# Altium integrated library ON Semi EMI Filters.IntLib: 88 symbols (part 1 of 3)
Pins are listed as number, name and electrical type; pins without a type are passive.

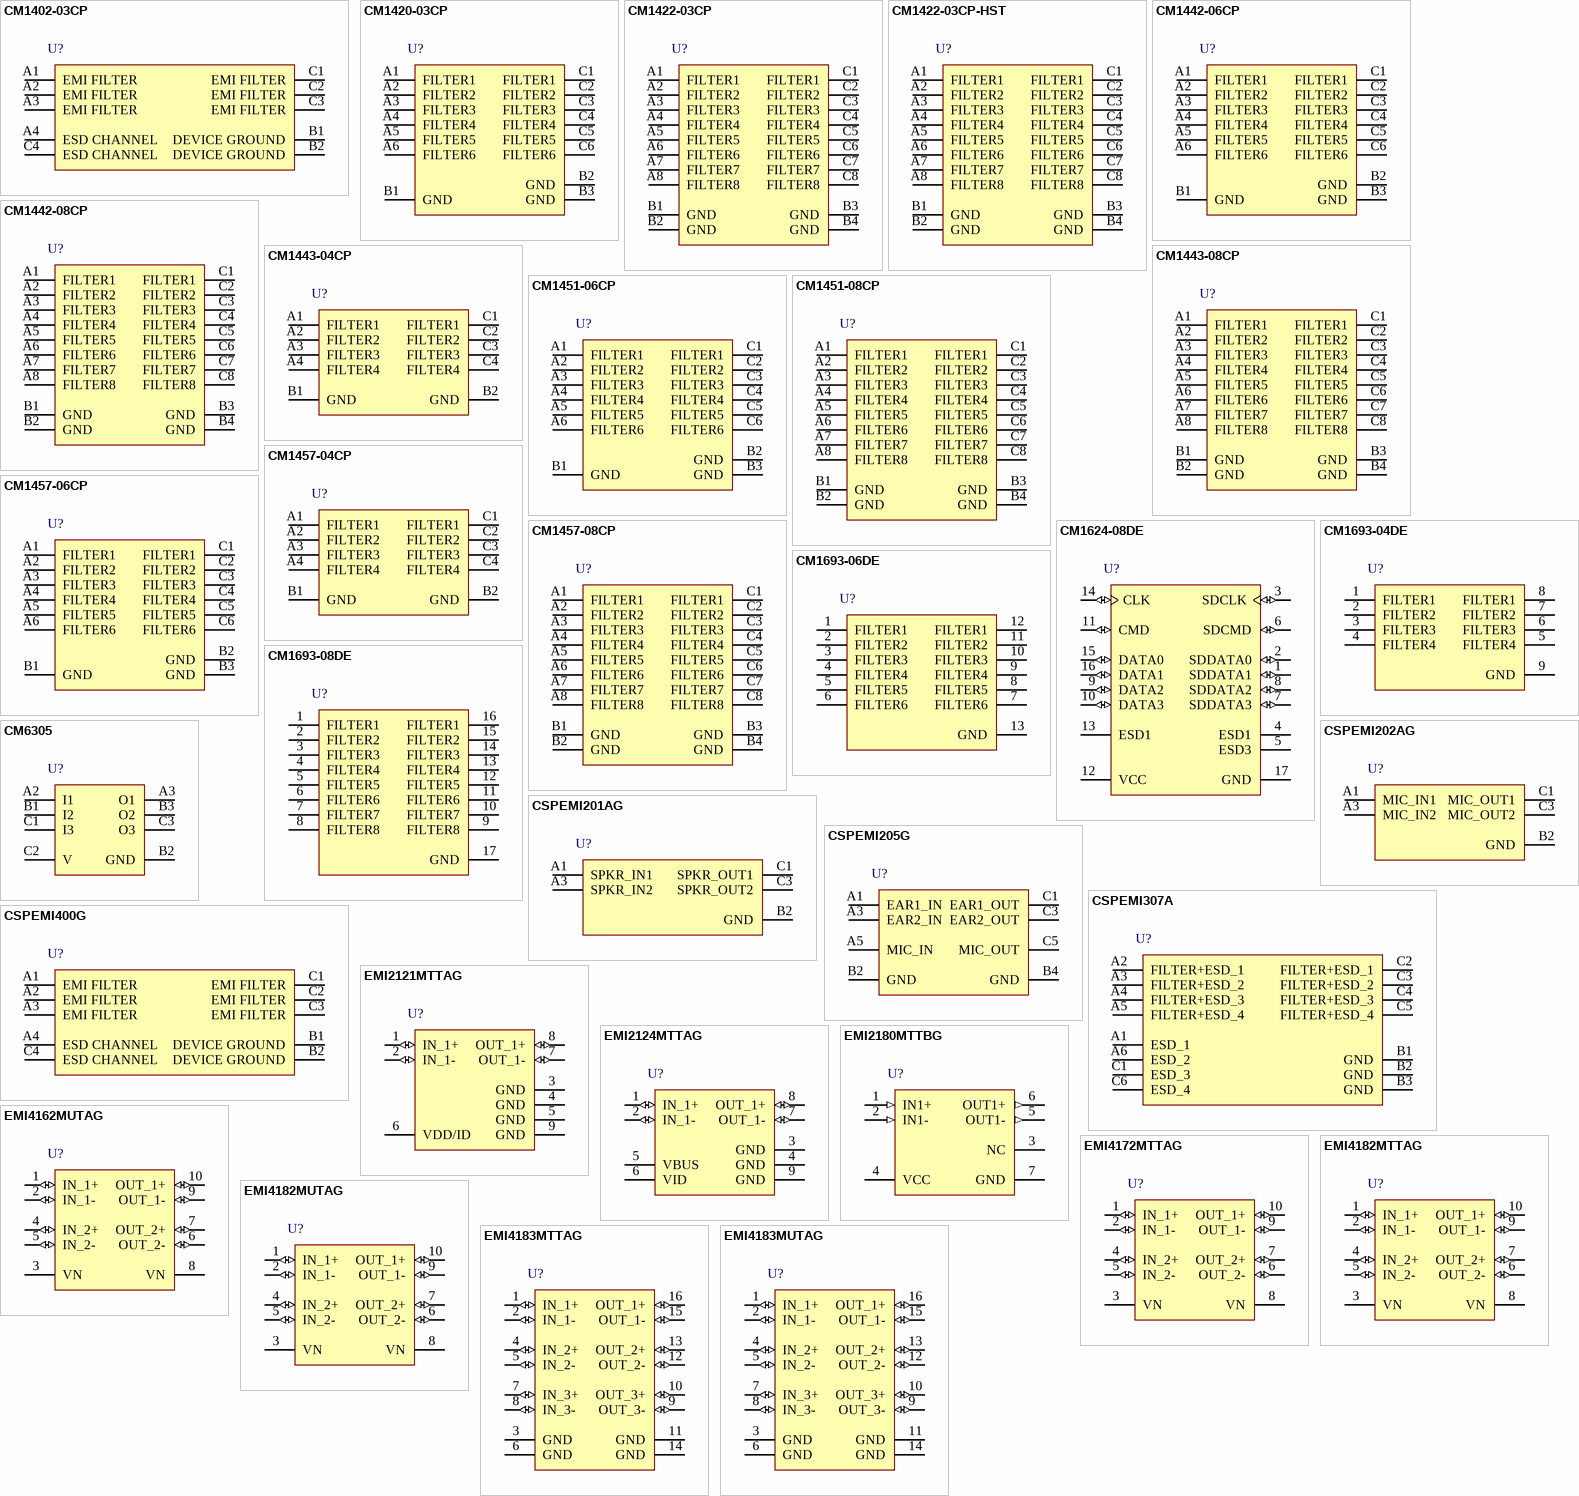
[diagram p0: symbols CM1402-03CP to EMI4183MUTAG]

## CM1402-03CP
designator U?
SIM Card EMI Filter Array with ESD Protection, -40 to 85 degC, 10-Pin WLCSP, Pb-Free, Tape and Reel; Manufacturer: On Semiconductor; PartNumber: CM1402-03CP; C Typ (pF): 20; Number of Lines: 4; DatasheetVersion: Rev. 4; PackageVersion: Rev. O, 07/2010; PackageReference: WLCSP-10-567BL-01; PackageDescription: 10-Ball Wafer Level Chip Scale Package, Body 1.96 x 1.33 mm; Supplier 1: Digi-Key; Supplier Part Number 1: CM1402-03CPOSTR-ND; Supplier 2: Digi-Key; Supplier Part Number 2: CM1402-03CPOSCT-ND; Supplier 3: Digi-Key; Supplier Part Number 3: CM1402-03CPOSDKR-ND; Supplier 4: Mouser; Supplier Part Number 4: 748-CM1402-03CP; Packing: Tape and Reel; RoHS: Pb-Free; Mounting Technology: Surface Mount; ComponentLink1Description: Manufacturer URL; ComponentLink1URL: http://www.onsemi.com/; ComponentLink2Description: Datasheet; ComponentLink2URL: http://www.onsemi.com/pub_link/Collateral/CM1402-D.PDF; ComponentLink3Description: Package Specification; ComponentLink3URL: http://www.onsemi.com/pub_link/Collateral/567BL.PDF
footprint ONSC-WLCSP-10-567BL-01 (BGA, 10-Balls, Body 1.96x1.33mm)
pins: A1 EMI FILTER "EMI Filter with ESD Protection for RST Signal", A2 EMI FILTER "EMI Filter with ESD Protection for CLK Signal", A3 EMI FILTER "EMI Filter with ESD Protection for DAT Signal", A4 ESD CHANNEL (power) "ESD Protection Channel - VCC Supply", B1 DEVICE GROUND (power) "Device Ground", B2 DEVICE GROUND (power) "Device Ground", C1 EMI FILTER "EMI Filter with ESD Protection for RST Signal", C2 EMI FILTER "EMI Filter with ESD Protection for CLK Signal", C3 EMI FILTER "EMI Filter with ESD Protection for DAT Signal", C4 ESD CHANNEL "ESD Protection Channel"

## CM1420-03CP
designator U?
LCD EMI Filter Array with ESD Protection, -40 to 85 degC, 15-Pin WLCSP, Pb-Free, Tape and Reel; Manufacturer: On Semiconductor; PartNumber: CM1420-03CP; C Typ (pF): 15; Number of Lines: 6; DatasheetVersion: Rev. 4; PackageVersion: Rev. O, 07/2010; PackageReference: WLCSP-15-567BS-01; PackageDescription: 15-Ball Wafer Level Chip Scale Package, Body 2.96 x 1.33 mm; Supplier 1: Digi-Key; Supplier Part Number 1: CM1420-03CP-ND; Packing: Tape and Reel; RoHS: Pb-Free; Mounting Technology: Surface Mount; ComponentLink1Description: Manufacturer URL; ComponentLink1URL: http://www.onsemi.com/; ComponentLink2Description: Datasheet; ComponentLink2URL: http://www.onsemi.com/pub/Collateral/CM1420-D.PDF; ComponentLink3Description: Package Specification; ComponentLink3URL: http://www.onsemi.com/pub_link/Collateral/567BS.PDF
footprint ONSC-WLCSP-15-567BS-01 (BGA, 15-Balls, Body 2.96x1.33mm)
pins: A1 FILTER1 "Filter Channel 1", A2 FILTER2 "Filter Channel 2", A3 FILTER3 "Filter Channel 3", A4 FILTER4 "Filter Channel 4", A5 FILTER5 "Filter Channel 5", A6 FILTER6 "Filter Channel 6", B1 GND (power) "Device Ground", B2 GND (power) "Device Ground", B3 GND (power) "Device Ground", C1 FILTER1 "Filter Channel 1", C2 FILTER2 "Filter Channel 2", C3 FILTER3 "Filter Channel 3", C4 FILTER4 "Filter Channel 4", C5 FILTER5 "Filter Channel 5", C6 FILTER6 "Filter Channel 6"

## CM1422-03CP
designator U?
LCD EMI Filter Array with ESD Protection, -40 to 85 degC, 20-Pin WLCSP, Pb-Free, Tape and Reel; Manufacturer: On Semiconductor; PartNumber: CM1422-03CP; C Typ (pF): 15; Number of Lines: 8; DatasheetVersion: Rev. 4; PackageVersion: Rev. O, 07/2010; PackageReference: WLCSP-20-567BZ-01; PackageDescription: 20-Ball Wafer Level Chip Scale Package, Body 4 x 1.46 mm; Supplier 1: Digi-Key; Supplier Part Number 1: CM1422-03CPOSTR-ND; Supplier 2: Digi-Key; Supplier Part Number 2: CM1422-03CPOSCT-ND; Supplier 3: Digi-Key; Supplier Part Number 3: CM1422-03CPOSDKR-ND; Supplier 4: Newark; Supplier Part Number 4: 99R2563; Supplier 5: Mouser; Supplier Part Number 5: 748-CM1422-03CP; Packing: Tape and Reel; RoHS: Pb-Free; Mounting Technology: Surface Mount; ComponentLink1Description: Manufacturer URL; ComponentLink1URL: http://www.onsemi.com/; ComponentLink2Description: Datasheet; ComponentLink2URL: http://www.onsemi.com/pub/Collateral/CM1420-D.PDF; ComponentLink3Description: Package Specification; ComponentLink3URL: http://www.onsemi.com/pub_link/Collateral/567BZ.PDF
footprint ONSC-WLCSP-20-567BZ-01 (BGA, 20-Balls, Body 4x1.46mm)
pins: A1 FILTER1 "Filter Channel 1", A2 FILTER2 "Filter Channel 2", A3 FILTER3 "Filter Channel 3", A4 FILTER4 "Filter Channel 4", A5 FILTER5 "Filter Channel 5", A6 FILTER6 "Filter Channel 6", A7 FILTER7 "Filter Channel 7", A8 FILTER8 "Filter Channel 8", B1 GND (power) "Device Ground", B2 GND (power) "Device Ground", B3 GND (power) "Device Ground", B4 GND (power) "Device Ground", C1 FILTER1 "Filter Channel 1", C2 FILTER2 "Filter Channel 2", C3 FILTER3 "Filter Channel 3", C4 FILTER4 "Filter Channel 4", C5 FILTER5 "Filter Channel 5", C6 FILTER6 "Filter Channel 6", C7 FILTER7 "Filter Channel 7", C8 FILTER8 "Filter Channel 8"

## CM1422-03CP-HST
designator U?
LCD EMI Filter Array with ESD Protection, -40 to 85 degC, 20-Pin WLCSP, Pb-Free, Tape and Reel; Manufacturer: On Semiconductor; PartNumber: CM1422-03CP-HST; C Typ (pF): 15; Number of Lines: 8; DatasheetVersion: Rev. 4; PackageVersion: Rev. O, 07/2010; PackageReference: WLCSP-20-567BZ-01; PackageDescription: 20-Ball Wafer Level Chip Scale Package, Body 4 x 1.46 mm; Supplier 1: Mouser; Supplier Part Number 1: 748-CM1422-03CP-HST; Packing: Tape and Reel; RoHS: Pb-Free; Mounting Technology: Surface Mount; ComponentLink1Description: Manufacturer URL; ComponentLink1URL: http://www.onsemi.com/; ComponentLink2Description: Datasheet; ComponentLink2URL: http://www.onsemi.com/pub/Collateral/CM1420-D.PDF; ComponentLink3Description: Package Specification; ComponentLink3URL: http://www.onsemi.com/pub_link/Collateral/567BZ.PDF
footprint ONSC-WLCSP-20-567BZ-01 (BGA, 20-Balls, Body 4x1.46mm)
pins: A1 FILTER1 "Filter Channel 1", A2 FILTER2 "Filter Channel 2", A3 FILTER3 "Filter Channel 3", A4 FILTER4 "Filter Channel 4", A5 FILTER5 "Filter Channel 5", A6 FILTER6 "Filter Channel 6", A7 FILTER7 "Filter Channel 7", A8 FILTER8 "Filter Channel 8", B1 GND (power) "Device Ground", B2 GND (power) "Device Ground", B3 GND (power) "Device Ground", B4 GND (power) "Device Ground", C1 FILTER1 "Filter Channel 1", C2 FILTER2 "Filter Channel 2", C3 FILTER3 "Filter Channel 3", C4 FILTER4 "Filter Channel 4", C5 FILTER5 "Filter Channel 5", C6 FILTER6 "Filter Channel 6", C7 FILTER7 "Filter Channel 7", C8 FILTER8 "Filter Channel 8"

## CM1442-06CP
designator U?
LCD and Camera EMI Filter Array with ESD Protection, -40 to 85 degC, 15-Pin WLCSP, Pb-Free, Tape and Reel; Manufacturer: On Semiconductor; PartNumber: CM1442-06CP; C Typ (pF): 30; Number of Lines: 6; DatasheetVersion: Rev. 3; PackageVersion: Rev. O, 07/2010; PackageReference: WLCSP-15-567BP-01; PackageDescription: 15-Ball Wafer Level Chip Scale Package, Body 2.36 x 1.05 mm; Supplier 1: Digi-Key; Supplier Part Number 1: CM1442-06CP-ND; Supplier 2: Mouser; Supplier Part Number 2: 748-CM1442-06CP; Packing: Tape and Reel; RoHS: Pb-Free; Mounting Technology: Surface Mount; ComponentLink1Description: Manufacturer URL; ComponentLink1URL: http://www.onsemi.com/; ComponentLink2Description: Datasheet; ComponentLink2URL: http://www.onsemi.com/pub_link/Collateral/CM1442-D.PDF; ComponentLink3Description: Package Specification; ComponentLink3URL: http://www.onsemi.com/pub_link/Collateral/567BP.PDF
footprint ONSC-WLCSP-15-567BP-01 (BGA, 15-Balls, Body 2.36x1.05mm)
pins: A1 FILTER1 "Filter Channel 1", A2 FILTER2 "Filter Channel 2", A3 FILTER3 "Filter Channel 3", A4 FILTER4 "Filter Channel 4", A5 FILTER5 "Filter Channel 5", A6 FILTER6 "Filter Channel 6", B1 GND (power) "Device Ground", B2 GND (power) "Device Ground", B3 GND (power) "Device Ground", C1 FILTER1 "Filter Channel 1", C2 FILTER2 "Filter Channel 2", C3 FILTER3 "Filter Channel 3", C4 FILTER4 "Filter Channel 4", C5 FILTER5 "Filter Channel 5", C6 FILTER6 "Filter Channel 6"

## CM1442-08CP
designator U?
LCD and Camera EMI Filter Array with ESD Protection, -40 to 85 degC, 20-Pin WLCSP, Pb-Free, Tape and Reel; Manufacturer: On Semiconductor; PartNumber: CM1442-08CP; C Typ (pF): 30; Number of Lines: 8; DatasheetVersion: Rev. 3; PackageVersion: Rev. O, 07/2010; PackageReference: WLCSP-20-567BU-01; PackageDescription: 20-Ball Wafer Level Chip Scale Package, Body 3.16 x 1.05 mm; Supplier 1: Digi-Key; Supplier Part Number 1: CM1442-08CP-ND; Supplier 2: Newark; Supplier Part Number 2: 99R2580; Supplier 3: Mouser; Supplier Part Number 3: 748-CM1442-08CP; Packing: Tape and Reel; RoHS: Pb-Free; Mounting Technology: Surface Mount; ComponentLink1Description: Manufacturer URL; ComponentLink1URL: http://www.onsemi.com/; ComponentLink2Description: Datasheet; ComponentLink2URL: http://www.onsemi.com/pub_link/Collateral/CM1442-D.PDF; ComponentLink3Description: Package Specification; ComponentLink3URL: http://www.onsemi.com/pub_link/Collateral/567BU.PDF
footprint ONSC-WLCSP-20-567BU-01 (BGA, 20-Balls, Body 3.16x1.05mm)
pins: A1 FILTER1 "Filter Channel 1", A2 FILTER2 "Filter Channel 2", A3 FILTER3 "Filter Channel 3", A4 FILTER4 "Filter Channel 4", A5 FILTER5 "Filter Channel 5", A6 FILTER6 "Filter Channel 6", A7 FILTER7 "Filter Channel 7", A8 FILTER8 "Filter Channel 8", B1 GND (power) "Device Ground", B2 GND (power) "Device Ground", B3 GND (power) "Device Ground", B4 GND (power) "Device Ground", C1 FILTER1 "Filter Channel 1", C2 FILTER2 "Filter Channel 2", C3 FILTER3 "Filter Channel 3", C4 FILTER4 "Filter Channel 4", C5 FILTER5 "Filter Channel 5", C6 FILTER6 "Filter Channel 6", C7 FILTER7 "Filter Channel 7", C8 FILTER8 "Filter Channel 8"

## CM1443-04CP
designator U?
4-Channel EMI Filter Array with ESD Protection, -40 to 85 degC, 10-Pin WLCSP, Pb-Free, Tape and Reel; Manufacturer: On Semiconductor; PartNumber: CM1443-04CP; C Typ (pF): 17; Number of Lines: 4; DatasheetVersion: Rev. 3; PackageVersion: Rev. O, 07/2010; PackageReference: WLCSP-10-567BH-01; PackageDescription: 10-Ball Wafer Level Chip Scale Package, Body 1.56 x 1.05 mm; Supplier 1: Digi-Key; Supplier Part Number 1: CM1443-04CP-ND; Supplier 2: Mouser; Supplier Part Number 2: 748-CM1443-04CP; Packing: Tape and Reel; RoHS: Pb-Free; Mounting Technology: Surface Mount; ComponentLink1Description: Manufacturer URL; ComponentLink1URL: http://www.onsemi.com/; ComponentLink2Description: Datasheet; ComponentLink2URL: http://www.onsemi.com/pub_link/Collateral/CM1443-04CP-D.PDF; ComponentLink3Description: Package Specification; ComponentLink3URL: http://www.onsemi.com/pub_link/Collateral/567BH.PDF
footprint ONSC-WLCSP-10-567BH-01 (BGA, 10-Balls, Body 1.56x1.05mm)
pins: A1 FILTER1 "Filter Channel 1", A2 FILTER2 "Filter Channel 2", A3 FILTER3 "Filter Channel 3", A4 FILTER4 "Filter Channel 4", B1 GND (power) "Device Ground", B2 GND (power) "Device Ground", C1 FILTER1 "Filter Channel 1", C2 FILTER2 "Filter Channel 2", C3 FILTER3 "Filter Channel 3", C4 FILTER4 "Filter Channel 4"

## CM1443-08CP
designator U?
8-Channel EMI Filter Array with ESD Protection, -40 to 85 degC, 20-Pin WLCSP, Pb-Free, Tape and Reel; Manufacturer: On Semiconductor; PartNumber: CM1443-08CP; C Typ (pF): 17; Number of Lines: 8; DatasheetVersion: Rev. 3; PackageVersion: Rev. O, 07/2010; PackageReference: WLCSP-20-567BU-01; PackageDescription: 20-Ball Wafer Level Chip Scale Package, Body 3.16 x 1.05 mm; Supplier 1: Digi-Key; Supplier Part Number 1: CM1443-08CP-ND; Supplier 2: Mouser; Supplier Part Number 2: 748-CM1443-08CP; Packing: Tape and Reel; RoHS: Pb-Free; Mounting Technology: Surface Mount; ComponentLink1Description: Manufacturer URL; ComponentLink1URL: http://www.onsemi.com/; ComponentLink2Description: Datasheet; ComponentLink2URL: http://www.onsemi.com/pub_link/Collateral/CM1443-08CP-D.PDF; ComponentLink3Description: Package Specification; ComponentLink3URL: http://www.onsemi.com/pub_link/Collateral/567BU.PDF
footprint ONSC-WLCSP-20-567BU-01 (BGA, 20-Balls, Body 3.16x1.05mm)
pins: A1 FILTER1 "Filter Channel 1", A2 FILTER2 "Filter Channel 2", A3 FILTER3 "Filter Channel 3", A4 FILTER4 "Filter Channel 4", A5 FILTER5 "Filter Channel 5", A6 FILTER6 "Filter Channel 6", A7 FILTER7 "Filter Channel 7", A8 FILTER8 "Filter Channel 8", B1 GND (power) "Device Ground", B2 GND (power) "Device Ground", B3 GND (power) "Device Ground", B4 GND (power) "Device Ground", C1 FILTER1 "Filter Channel 1", C2 FILTER2 "Filter Channel 2", C3 FILTER3 "Filter Channel 3", C4 FILTER4 "Filter Channel 4", C5 FILTER5 "Filter Channel 5", C6 FILTER6 "Filter Channel 6", C7 FILTER7 "Filter Channel 7", C8 FILTER8 "Filter Channel 8"

## CM1451-06CP
designator U?
LCD and Camera EMI Filter Array with ESD Protection, -40 to 85 degC, 15-Pin WLCSP, Pb-Free, Tape and Reel; Manufacturer: On Semiconductor; PartNumber: CM1451-06CP; C Typ (pF): 28.5; Number of Lines: 6; DatasheetVersion: Rev. 3; PackageVersion: Rev. O, 07/2010; PackageReference: WLCSP-15-567BT-01; PackageDescription: 15-Ball Wafer Level Chip Scale Package, Body 3.01 x 1.38 mm; Supplier 1: Digi-Key; Supplier Part Number 1: CM1451-06CP-ND; Supplier 2: Newark; Supplier Part Number 2: 99R2585; Supplier 3: Mouser; Supplier Part Number 3: 748-CM1451-06CP; Packing: Tape and Reel; RoHS: Pb-Free; Mounting Technology: Surface Mount; ComponentLink1Description: Manufacturer URL; ComponentLink1URL: http://www.onsemi.com/; ComponentLink2Description: Datasheet; ComponentLink2URL: http://www.onsemi.com/pub_link/Collateral/CM1451-D.PDF; ComponentLink3Description: Package Specification; ComponentLink3URL: http://www.onsemi.com/pub_link/Collateral/567BT.PDF
footprint ONSC-WLCSP-15-567BT-01 (BGA, 10-Balls, Body 3.01x1.38mm)
pins: A1 FILTER1 "Filter Channel 1", A2 FILTER2 "Filter Channel 2", A3 FILTER3 "Filter Channel 3", A4 FILTER4 "Filter Channel 4", A5 FILTER5 "Filter Channel 5", A6 FILTER6 "Filter Channel 6", B1 GND (power) "Device Ground", B2 GND (power) "Device Ground", B3 GND (power) "Device Ground", C1 FILTER1 "Filter Channel 1", C2 FILTER2 "Filter Channel 2", C3 FILTER3 "Filter Channel 3", C4 FILTER4 "Filter Channel 4", C5 FILTER5 "Filter Channel 5", C6 FILTER6 "Filter Channel 6"

## CM1451-08CP
designator U?
LCD and Camera EMI Filter Array with ESD Protection, -40 to 85 degC, 20-Pin WLCSP, Pb-Free, Tape and Reel; Manufacturer: On Semiconductor; PartNumber: CM1451-08CP; C Typ (pF): 28.5; Number of Lines: 8; DatasheetVersion: Rev. 3; PackageVersion: Rev. O, 07/2010; PackageReference: WLCSP-20-567CL-01; PackageDescription: 20-Ball Wafer Level Chip Scale Package, Body 4.01 x 1.38 mm; Supplier 1: Digi-Key; Supplier Part Number 1: CM1451-08CP-ND; Supplier 2: Mouser; Supplier Part Number 2: 748-CM1451-08CP; Packing: Tape and Reel; RoHS: Pb-Free; Mounting Technology: Surface Mount; ComponentLink1Description: Manufacturer URL; ComponentLink1URL: http://www.onsemi.com/; ComponentLink2Description: Datasheet; ComponentLink2URL: http://www.onsemi.com/pub_link/Collateral/CM1451-D.PDF; ComponentLink3Description: Package Specification; ComponentLink3URL: http://www.onsemi.com/pub_link/Collateral/567CL.PDF
footprint ONSC-WLCSP-20-567CL-01 (BGA, 20-Balls, Body 4.01x1.38mm)
pins: A1 FILTER1 "Filter Channel 1", A2 FILTER2 "Filter Channel 2", A3 FILTER3 "Filter Channel 3", A4 FILTER4 "Filter Channel 4", A5 FILTER5 "Filter Channel 5", A6 FILTER6 "Filter Channel 6", A7 FILTER7 "Filter Channel 7", A8 FILTER8 "Filter Channel 8", B1 GND (power) "Device Ground", B2 GND (power) "Device Ground", B3 GND (power) "Device Ground", B4 GND (power) "Device Ground", C1 FILTER1 "Filter Channel 1", C2 FILTER2 "Filter Channel 2", C3 FILTER3 "Filter Channel 3", C4 FILTER4 "Filter Channel 4", C5 FILTER5 "Filter Channel 5", C6 FILTER6 "Filter Channel 6", C7 FILTER7 "Filter Channel 7", C8 FILTER8 "Filter Channel 8"

## CM1457-04CP
designator U?
4-Channel EMI Filter Array with ESD Protection, -40 to 85 degC, 10-Pin WLCSP, Pb-Free, Tape and Reel; Manufacturer: On Semiconductor; PartNumber: CM1457-04CP; Number of Lines: 4; DatasheetVersion: Rev. 6; PackageVersion: Rev. O, 07/2010; PackageReference: WLCSP-10-567BJ-01; PackageDescription: 10-Ball Wafer Level Chip Scale Package, Body 1.67 x 1.05 mm; Supplier 1: Digi-Key; Supplier Part Number 1: CM1457-04CP-ND; Supplier 2: Mouser; Supplier Part Number 2: 863-CM1457-04CP; Packing: Tape and Reel; RoHS: Pb-Free; Mounting Technology: Surface Mount; ComponentLink1Description: Manufacturer URL; ComponentLink1URL: http://www.onsemi.com/; ComponentLink2Description: Datasheet; ComponentLink2URL: http://www.onsemi.com/pub_link/Collateral/CM1457-D.PDF; ComponentLink3Description: Package Specification; ComponentLink3URL: http://www.onsemi.com/pub_link/Collateral/567BJ.PDF
footprint ONSC-WLCSP-10-567BJ-01 (BGA, 10-Balls, Body 1.67x1.05mm)
pins: A1 FILTER1 "Filter #1 (Internal)", A2 FILTER2 "Filter #2 (Internal)", A3 FILTER3 "Filter #3 (Internal)", A4 FILTER4 "Filter #4 (Internal)", B1 GND (power), B2 GND (power), C1 FILTER1 "Filter #1 (External)", C2 FILTER2 "Filter #2 (External)", C3 FILTER3 "Filter #3 (External)", C4 FILTER4 "Filter #4 (External)"

## CM1457-06CP
designator U?
6-Channel EMI Filter Array with ESD Protection, -40 to 85 degC, 15-Pin WLCSP, Pb-Free, Tape and Reel; Manufacturer: On Semiconductor; PartNumber: CM1457-06CP; Number of Lines: 6; DatasheetVersion: Rev. 6; PackageVersion: Rev. O, 07/2010; PackageReference: WLCSP-15-567BR-01; PackageDescription: 15-Ball Wafer Level Chip Scale Package, Body 2.47 x 1.05 mm; Supplier 1: Digi-Key; Supplier Part Number 1: CM1457-06CP-ND; Supplier 2: Newark; Supplier Part Number 2: 99R2593; Supplier 3: Mouser; Supplier Part Number 3: 863-CM1457-06CP; Packing: Tape and Reel; RoHS: Pb-Free; Mounting Technology: Surface Mount; ComponentLink1Description: Manufacturer URL; ComponentLink1URL: http://www.onsemi.com/; ComponentLink2Description: Datasheet; ComponentLink2URL: http://www.onsemi.com/pub_link/Collateral/CM1457-D.PDF; ComponentLink3Description: Package Specification; ComponentLink3URL: http://www.onsemi.com/pub/Collateral/567BR.PDF
footprint ONSC-WLCSP-15-567BR-01 (BGA, 15-Balls, Body 2.47x1.05mm)
pins: A1 FILTER1 "Filter Channel 1", A2 FILTER2 "Filter Channel 2", A3 FILTER3 "Filter Channel 3", A4 FILTER4 "Filter Channel 4", A5 FILTER5 "Filter Channel 5", A6 FILTER6 "Filter Channel 6", B1 GND (power) "Device Ground", B2 GND (power) "Device Ground", B3 GND (power) "Device Ground", C1 FILTER1 "Filter Channel 1", C2 FILTER2 "Filter Channel 2", C3 FILTER3 "Filter Channel 3", C4 FILTER4 "Filter Channel 4", C5 FILTER5 "Filter Channel 5", C6 FILTER6 "Filter Channel 6"

## CM1457-08CP
designator U?
8-Channel EMI Filter Array with ESD Protection, -40 to 85 degC, 20-Pin WLCSP, Pb-Free, Tape and Reel; Manufacturer: On Semiconductor; PartNumber: CM1457-08CP; Number of Lines: 8; DatasheetVersion: Rev. 6; PackageVersion: Rev. O, 07/2010; PackageReference: WLCSP-20-567BV-01; PackageDescription: 20-Ball Wafer Level Chip Scale Package, Body 3.27 x 1.05 mm; Supplier 1: Digi-Key; Supplier Part Number 1: CM1457-08CP-ND; Supplier 2: Mouser; Supplier Part Number 2: 863-CM1457-08CP; Packing: Tape and Reel; RoHS: Pb-Free; Mounting Technology: Surface Mount; ComponentLink1Description: Manufacturer URL; ComponentLink1URL: http://www.onsemi.com/; ComponentLink2Description: Datasheet; ComponentLink2URL: http://www.onsemi.com/pub_link/Collateral/CM1457-D.PDF; ComponentLink3Description: Package Specification; ComponentLink3URL: http://www.onsemi.com/pub_link/Collateral/567BV.PDF
footprint ONSC-WLCSP-20-567BV-01 (BGA, 20-Balls, Body 3.27x1.05mm)
pins: A1 FILTER1 "Filter Channel 1", A2 FILTER2 "Filter Channel 2", A3 FILTER3 "Filter Channel 3", A4 FILTER4 "Filter Channel 4", A5 FILTER5 "Filter Channel 5", A6 FILTER6 "Filter Channel 6", A7 FILTER7 "Filter Channel 7", A8 FILTER8 "Filter Channel 8", B1 GND (power) "Device Ground", B2 GND (power) "Device Ground", B3 GND (power) "Device Ground", B4 GND (power) "Device Ground", C1 FILTER1 "Filter Channel 1", C2 FILTER2 "Filter Channel 2", C3 FILTER3 "Filter Channel 3", C4 FILTER4 "Filter Channel 4", C5 FILTER5 "Filter Channel 5", C6 FILTER6 "Filter Channel 6", C7 FILTER7 "Filter Channel 7", C8 FILTER8 "Filter Channel 8"

## CM1624-08DE
designator U?
EMI Filter for T-Flash / MicroSD Interface, -40 to 85 degC, 16-Pin UDFN, Pb-Free, Tape and Reel; Manufacturer: On Semiconductor; PartNumber: CM1624-08DE; Number of Lines: 8; DatasheetVersion: Rev. 3; PackageVersion: Rev. O, 11/2009; PackageReference: UDFN-16-517BE-01; PackageDescription: 16-Pin Small Outline No-Lead, Body 3.3 x 1.35 mm, Pitch 0.4 mm; Supplier 1: Digi-Key; Supplier Part Number 1: CM1624-08DEOSTR-ND; Supplier 2: Digi-Key; Supplier Part Number 2: CM1624-08DEOSCT-ND; Supplier 3: Digi-Key; Supplier Part Number 3: CM1624-08DEOSDKR-ND; Supplier 4: Farnell; Supplier Part Number 4: 1899027; Supplier 5: Newark; Supplier Part Number 5: 55T2137; Supplier 6: Newark; Supplier Part Number 6: 99R2610; Supplier 7: Mouser; Supplier Part Number 7: 748-CM1624-08DE; Packing: Tape and Reel; RoHS: Pb-Free; Mounting Technology: Surface Mount; ComponentLink1Description: Manufacturer URL; ComponentLink1URL: http://www.onsemi.com/; ComponentLink2Description: Datasheet; ComponentLink2URL: http://www.onsemi.com/pub_link/Collateral/CM1624-D.PDF; ComponentLink3Description: Package Specification; ComponentLink3URL: http://www.onsemi.com/pub_link/Collateral/517BE.PDF
footprint ONSC-UDFN-16-517BE-01_V (SON, 16-Leads, Body 3.3x1.35mm, Pitch 0.4mm, Thermal Pad 3x0.5mm)
pins: 1 SDDATA1 (io) "Data line #1 input/output with pull-up resistor", 2 SDDATA0 (io) "Data line #0 input/output with pull-up resistor", 3 SDCLK (io) "Clock line Input/Output", 4 ESD1 "Single ESD", 5 ESD3 "Single ESD", 6 SDCMD (io) "Command Line Input/Output", 7 SDDATA3 (io) "Data line #3 input/output with pull-up resistor", 8 SDDATA2 (io) "Data line #2 input/output with pull-up resistor", 9 DATA2 (io) "Data line #2 input/output with pull-up resistor", 10 DATA3 (io) "Data line #3 input/output with pull-up resistor", 11 CMD (io) "Command Line Input/Output", 12 VCC (power) "Power Supply ESD Protection", 13 ESD1 "Single ESD", 14 CLK (io) "Clock line Input/Output", 15 DATA0 (io) "Data line #0 input/output with pull-up resistor", 16 DATA1 (io) "Data line #1 input/output with pull-up resistor", 17 GND (power) "Ground return to shield"

## CM1693-04DE
designator U?
L-C LCD and Camera EMI Filter Array with ESD Protection, -40 to 85 degC, 8-Pin UDFN, Pb-Free, Tape and Reel; Manufacturer: On Semiconductor; PartNumber: CM1693-04DE; C Typ (pF): 22; Number of Lines: 4; DatasheetVersion: Rev. 3; PackageVersion: Rev. O, 11/2009; PackageReference: UDFN-8-517BC-01; PackageDescription: 8-Pin Small Outline No-Lead, Body 1.7 x 1.35 mm, Pitch 0.4 mm; Supplier 1: Digi-Key; Supplier Part Number 1: CM1693-04DEOSTR-ND; Supplier 2: Digi-Key; Supplier Part Number 2: CM1693-04DEOSCT-ND; Supplier 3: Digi-Key; Supplier Part Number 3: CM1693-04DEOSDKR-ND; Supplier 4: Newark; Supplier Part Number 4: 99R2628; Supplier 5: Mouser; Supplier Part Number 5: 748-CM1693-04DE; Packing: Tape and Reel; RoHS: Pb-Free; Mounting Technology: Surface Mount; ComponentLink1Description: Manufacturer URL; ComponentLink1URL: http://www.onsemi.com/; ComponentLink2Description: Datasheet; ComponentLink2URL: http://www.onsemi.com/pub_link/Collateral/CM1693-D.PDF; ComponentLink3Description: Package Specification; ComponentLink3URL: http://www.onsemi.com/pub_link/Collateral/517BC.PDF
footprint ONSC-UDFN-8-517BC-01_V (SON, 8-Leads, Body 1.7x1.35mm, Pitch 0.4mm, Thermal Pad 1.4x0.5mm)
pins: 1 FILTER1 "Filter + ESD Channel 1", 2 FILTER2 "Filter + ESD Channel 2", 3 FILTER3 "Filter + ESD Channel 3", 4 FILTER4 "Filter + ESD Channel 4", 5 FILTER4 "Filter + ESD Channel 4", 6 FILTER3 "Filter + ESD Channel 3", 7 FILTER2 "Filter + ESD Channel 2", 8 FILTER1 "Filter + ESD Channel 1", 9 GND (power) "Device Ground"

## CM1693-06DE
designator U?
L-C LCD and Camera EMI Filter Array with ESD Protection, -40 to 85 degC, 12-Pin UDFN, Pb-Free, Tape and Reel; Manufacturer: On Semiconductor; PartNumber: CM1693-06DE; C Typ (pF): 22; Number of Lines: 6; DatasheetVersion: Rev. 3; PackageVersion: Rev. O, 11/2009; PackageReference: UDFN-12-517BD-01; PackageDescription: 12-Pin Small Outline No-Lead, Body 2.5 x 1.35 mm, Pitch 0.4 mm; Supplier 1: Digi-Key; Supplier Part Number 1: CM1693-06DE-ND; Supplier 2: Mouser; Supplier Part Number 2: 863-CM1693-06DE; Packing: Tape and Reel; RoHS: Pb-Free; Mounting Technology: Surface Mount; ComponentLink1Description: Manufacturer URL; ComponentLink1URL: http://www.onsemi.com/; ComponentLink2Description: Datasheet; ComponentLink2URL: http://www.onsemi.com/pub_link/Collateral/CM1693-D.PDF; ComponentLink3Description: Package Specification; ComponentLink3URL: http://www.onsemi.com/pub_link/Collateral/517BD.PDF
footprint ONSC-UDFN-12-517BD-01_V (SON, 12-Leads, Body 2.5x1.35mm, Pitch 0.4mm, Thermal Pad 2.2x0.5mm)
pins: 1 FILTER1 "Filter + ESD Channel 1", 2 FILTER2 "Filter + ESD Channel 2", 3 FILTER3 "Filter + ESD Channel 3", 4 FILTER4 "Filter + ESD Channel 4", 5 FILTER5 "Filter + ESD Channel 5", 6 FILTER6 "Filter + ESD Channel 6", 7 FILTER6 "Filter + ESD Channel 6", 8 FILTER5 "Filter + ESD Channel 5", 9 FILTER4 "Filter + ESD Channel 4", 10 FILTER3 "Filter + ESD Channel 3", 11 FILTER2 "Filter + ESD Channel 2", 12 FILTER1 "Filter + ESD Channel 1", 13 GND (power) "Ground"

## CM1693-08DE
designator U?
L-C LCD and Camera EMI Filter Array with ESD Protection, -40 to 85 degC, 16-Pin UDFN, Pb-Free, Tape and Reel; Manufacturer: On Semiconductor; PartNumber: CM1693-08DE; C Typ (pF): 22; Number of Lines: 8; DatasheetVersion: Rev. 3; PackageVersion: Rev. O, 11/2009; PackageReference: UDFN-16-517BE-01; PackageDescription: 16-Pin Small Outline No-Lead, Body 3.3 x 1.35 mm, Pitch 0.4 mm; Supplier 1: Digi-Key; Supplier Part Number 1: CM1693-08DEOSTR-ND; Supplier 2: Digi-Key; Supplier Part Number 2: CM1693-08DEOSCT-ND; Supplier 3: Digi-Key; Supplier Part Number 3: CM1693-08DEOSDKR-ND; Supplier 4: Farnell; Supplier Part Number 4: 1899031; Supplier 5: Newark; Supplier Part Number 5: 99R2630; Supplier 6: Mouser; Supplier Part Number 6: 863-CM1693-08DE; Packing: Tape and Reel; RoHS: Pb-Free; Mounting Technology: Surface Mount; ComponentLink1Description: Manufacturer URL; ComponentLink1URL: http://www.onsemi.com/; ComponentLink2Description: Datasheet; ComponentLink2URL: http://www.onsemi.com/pub_link/Collateral/CM1693-D.PDF; ComponentLink3Description: Package Specification; ComponentLink3URL: http://www.onsemi.com/pub_link/Collateral/517BE.PDF
footprint ONSC-UDFN-16-517BE-01_V (SON, 16-Leads, Body 3.3x1.35mm, Pitch 0.4mm, Thermal Pad 3x0.5mm)
pins: 1 FILTER1 "Filter + ESD Channel 1", 2 FILTER2 "Filter + ESD Channel 2", 3 FILTER3 "Filter + ESD Channel 3", 4 FILTER4 "Filter + ESD Channel 4", 5 FILTER5 "Filter + ESD Channel 5", 6 FILTER6 "Filter + ESD Channel 6", 7 FILTER7 "Filter + ESD Channel 7", 8 FILTER8 "Filter + ESD Channel 8", 9 FILTER8 "Filter + ESD Channel 8", 10 FILTER7 "Filter + ESD Channel 7", 11 FILTER6 "Filter + ESD Channel 6", 12 FILTER5 "Filter + ESD Channel 5", 13 FILTER4 "Filter + ESD Channel 4", 14 FILTER3 "Filter + ESD Channel 3", 15 FILTER2 "Filter + ESD Channel 2", 16 FILTER1 "Filter + ESD Channel 1", 17 GND (power) "Ground"

## CM6305
designator U?
EMI Filter with ESD Protection for SIM Card Application, -40 to 85 degC, 8-Pin WLCSP, Pb-Free, Tape and Reel; Manufacturer: On Semiconductor; PartNumber: CM6305; C Typ (pF): 10; Number of Lines: 4; DatasheetVersion: Rev. 2; PackageVersion: Rev. O, 07/2010; PackageReference: WLCSP-8-567CE-01; PackageDescription: 8-Ball Wafer Level Chip Scale Package, Body 1.16 x 1.16 mm, Pitch 0.4 mm; Supplier 1: Digi-Key; Supplier Part Number 1: CM6305-ND; Supplier 2: Mouser; Supplier Part Number 2: 863-CM6305; Packing: Tape and Reel; RoHS: Pb-Free; Mounting Technology: Surface Mount; ComponentLink1Description: Manufacturer URL; ComponentLink1URL: http://www.onsemi.com/; ComponentLink2Description: Datasheet; ComponentLink2URL: http://www.onsemi.com/pub_link/Collateral/CM6305-D.PDF; ComponentLink3Description: Package Specification; ComponentLink3URL: http://www.onsemi.com/pub_link/Collateral/567CE.PDF
footprint ONSC-WLCSP-8-567CE-01 (BGA, 8-Balls, Body 1.16x1.16mm, Pitch 0.4mm)
pins: A2 I1 "Channel 1 External", A3 O1 "Channel 1 Internal", B1 I2 "Channel 2 External", B2 GND (power), B3 O2 "Channel 2 External", C1 I3 "Channel 3 External", C2 V (power) "V External", C3 O3 "Channel 3 External"

## CSPEMI201AG
designator U?
2 Channel Headset Speaker EMI Filter with ESD Protection, -40 to 85 degC, 5-Pin WLCSP, Pb-Free, Tape and Reel; Manufacturer: On Semiconductor; PartNumber: CSPEMI201AG; C Typ (pF): 100; Number of Lines: 2; DatasheetVersion: Rev. 4; PackageVersion: Rev. O, 07/2010; PackageReference: WLCSP-5-567AZ-01; PackageDescription: 5-Ball Wafer Level Chip Scale Package, Body 0.94 x 1.41 mm; Supplier 1: Digi-Key; Supplier Part Number 1: CSPEMI201AGOSTR-ND; Supplier 2: Digi-Key; Supplier Part Number 2: CSPEMI201AGOSCT-ND; Supplier 3: Digi-Key; Supplier Part Number 3: CSPEMI201AGOSDKR-ND; Supplier 4: Mouser; Supplier Part Number 4: 748-CSPEMI201AG; Packing: Tape and Reel; RoHS: Pb-Free; Mounting Technology: Surface Mount; ComponentLink1Description: Manufacturer URL; ComponentLink1URL: http://www.onsemi.com/; ComponentLink2Description: Datasheet; ComponentLink2URL: http://www.onsemi.com/pub_link/Collateral/CSPEMI201AG-D.PDF; ComponentLink3Description: Package Specification; ComponentLink3URL: http://www.onsemi.com/pub_link/Collateral/567AZ.PDF
footprint ONSC-WLCSP-5-567AZ-01 (BGA, 5-Balls, Body 1.41x0.94mm)
pins: A1 SPKR_IN1 "Speaker Input 1 (from audio circuitry)", A3 SPKR_IN2 "Speaker Input 2 (from audio circuitry)", B2 GND (power) "Device Ground", C1 SPKR_OUT1 "Speaker Output 1 (to speaker)", C3 SPKR_OUT2 "Speaker Output 2 (to speaker)"

## CSPEMI202AG
designator U?
2 Channel Headset Microphone EMI Filter with ESD Protection, -40 to 85 degC, 5-Pin WLCSP, Pb-Free, Tape and Reel; Manufacturer: On Semiconductor; PartNumber: CSPEMI202AG; C Typ (pF): 47; Number of Lines: 2; DatasheetVersion: Rev. 4; PackageVersion: Rev. O, 07/2010; PackageReference: WLCSP-5-567AZ-01; PackageDescription: 5-Ball Wafer Level Chip Scale Package, Body 0.94 x 1.41 mm; Supplier 1: Digi-Key; Supplier Part Number 1: CSPEMI202AG-ND; Supplier 2: Mouser; Supplier Part Number 2: 748-CSPEMI202AG; Packing: Tape and Reel; RoHS: Pb-Free; Mounting Technology: Surface Mount; ComponentLink1Description: Manufacturer URL; ComponentLink1URL: http://www.onsemi.com/; ComponentLink2Description: Datasheet; ComponentLink2URL: http://www.onsemi.com/pub_link/Collateral/CSPEMI202AG-D.PDF; ComponentLink3Description: Package Specification; ComponentLink3URL: http://www.onsemi.com/pub_link/Collateral/567AZ.PDF
footprint ONSC-WLCSP-5-567AZ-01 (BGA, 5-Balls, Body 1.41x0.94mm)
pins: A1 MIC_IN1 "Microphone Input 1 (from microphone)", A3 MIC_IN2 "Microphone Input 2 (from microphone)", B2 GND (power) "Device Ground", C1 MIC_OUT1 "Microphone Output 1 (to audio circuitry)", C3 MIC_OUT2 "Microphone Output 2 (to audio circuitry)"

## CSPEMI205G
designator U?
3-Channel Headset Microphone EMI Filter with ESD Protection, -40 to 85 degC, 8-Pin WLCSP, Pb-Free, Tape and Reel; Manufacturer: On Semiconductor; PartNumber: CSPEMI205G; Number of Lines: 3; DatasheetVersion: Rev. 4; PackageVersion: Rev. O, 07/2010; PackageReference: WLCSP-8-567BE-01; PackageDescription: 8-Ball Wafer Level Chip Scale Package, Body 1.43 x 1.41 mm; Supplier 1: Digi-Key; Supplier Part Number 1: CSPEMI205G-ND; Supplier 2: Mouser; Supplier Part Number 2: 748-CSPEMI205G; Packing: Tape and Reel; RoHS: Pb-Free; Mounting Technology: Surface Mount; ComponentLink1Description: Manufacturer URL; ComponentLink1URL: http://www.onsemi.com/; ComponentLink2Description: Datasheet; ComponentLink2URL: http://www.onsemi.com/pub_link/Collateral/CSPEMI205G-D.PDF; ComponentLink3Description: Package Specification; ComponentLink3URL: http://www.onsemi.com/pub_link/Collateral/567BE.PDF
footprint ONSC-WLCSP-8-567BE-01 (BGA, 8-Balls, Body 1.43x1.41mm)
pins: A1 EAR1_IN "Earpiece Input 1 (from audio circuitry)", A3 EAR2_IN "Earpiece Input 2 (from audio circuitry)", A5 MIC_IN "Microphone Input (from microphone)", B2 GND (power) "Device Ground", B4 GND (power) "Device Ground", C1 EAR1_OUT "Earpiece Output 1 (to earpiece)", C3 EAR2_OUT "Earpiece Output 2 (to earpiece)", C5 MIC_OUT "Microphone Output (to audio circuitry)"

## CSPEMI307A
designator U?
4-Channel ESD / EMI Filter Array Plus 4-Channel ESD Array for USB, -40 to 85 degC, 15-Pin WLCSP, Pb-Free, Tape and Reel; Manufacturer: On Semiconductor; PartNumber: CSPEMI307A; C Typ (pF): 30; Number of Lines: 6; DatasheetVersion: Rev. 3; PackageVersion: Rev. O, 07/2010; PackageReference: WLCSP-15-567BS-01; PackageDescription: 15-Ball Wafer Level Chip Scale Package, Body 2.96 x 1.33 mm; Packing: Tape and Reel; RoHS: Pb-Free; Mounting Technology: Surface Mount; ComponentLink1Description: Manufacturer URL; ComponentLink1URL: http://www.onsemi.com/; ComponentLink2Description: Datasheet; ComponentLink2URL: http://www.onsemi.com/pub_link/Collateral/CSPEMI307A-D.PDF; ComponentLink3Description: Package Specification; ComponentLink3URL: http://www.onsemi.com/pub_link/Collateral/567BS.PDF
footprint ONSC-WLCSP-15-567BS-01 (BGA, 15-Balls, Body 2.96x1.33mm)
pins: A1 ESD_1 "ESD Channel 1", A2 FILTER+ESD_1 "Filter + ESD Channel 1", A3 FILTER+ESD_2 "Filter + ESD Channel 2", A4 FILTER+ESD_3 "Filter + ESD Channel 3", A5 FILTER+ESD_4 "Filter + ESD Channel 4", A6 ESD_2 "ESD Channel 2", B1 GND (power) "Device Ground", B2 GND (power) "Device Ground", B3 GND (power) "Device Ground", C1 ESD_3 "ESD Channel 3", C2 FILTER+ESD_1 "Filter + ESD Channel 1", C3 FILTER+ESD_2 "Filter + ESD Channel 2", C4 FILTER+ESD_3 "Filter + ESD Channel 3", C5 FILTER+ESD_4 "Filter + ESD Channel 4", C6 ESD_4 "ESD Channel 4"

## CSPEMI400G
designator U?
SIM Card EMI Filter Array with ESD Protection, -40 to 85 degC, 10-Pin WLCSP, Pb-Free, Tape and Reel; Manufacturer: On Semiconductor; PartNumber: CSPEMI400G; C Typ (pF): 20; Number of Lines: 4; DatasheetVersion: Rev. 4; PackageVersion: Rev. O, 07/2010; PackageReference: WLCSP-10-567BL-01; PackageDescription: 10-Ball Wafer Level Chip Scale Package, Body 1.96 x 1.33 mm; Supplier 1: Digi-Key; Supplier Part Number 1: CSPEMI400G-ND; Supplier 2: Newark; Supplier Part Number 2: 99R2663; Supplier 3: Mouser; Supplier Part Number 3: 748-CSPEMI400G; Packing: Tape and Reel; RoHS: Pb-Free; Mounting Technology: Surface Mount; ComponentLink1Description: Manufacturer URL; ComponentLink1URL: http://www.onsemi.com/; ComponentLink2Description: Datasheet; ComponentLink2URL: http://www.onsemi.com/pub_link/Collateral/CSPEMI400-D.PDF; ComponentLink3Description: Package Specification; ComponentLink3URL: http://www.onsemi.com/pub_link/Collateral/567BL.PDF
footprint ONSC-WLCSP-10-567BL-01 (BGA, 10-Balls, Body 1.96x1.33mm)
pins: A1 EMI FILTER "EMI Filter with ESD Protection for RST Signal", A2 EMI FILTER "EMI Filter with ESD Protection for CLK Signal", A3 EMI FILTER "EMI Filter with ESD Protection for DAT Signal", A4 ESD CHANNEL (power) "ESD Protection Channel - VCC Supply", B1 DEVICE GROUND (power) "Device Ground", B2 DEVICE GROUND (power) "Device Ground", C1 EMI FILTER "EMI Filter with ESD Protection for RST Signal", C2 EMI FILTER "EMI Filter with ESD Protection for CLK Signal", C3 EMI FILTER "EMI Filter with ESD Protection for DAT Signal", C4 ESD CHANNEL "ESD Protection Channel"

## EMI2121MTTAG
designator U?
Single Pair Common Mode Filter with ESD Protection, -40 to 85 degC, 8-Pin WDFN, Pb-Free, Tape and Reel; Manufacturer: On Semiconductor; PartNumber: EMI2121MTTAG; C Typ (pF): 0.8; Number of Lines: 3; VRWM Max (V): 5; DatasheetVersion: Rev. 2; PackageVersion: Rev. A, 12/2012; PackageReference: WDFN-8-511BN; PackageDescription: 8-Pin Small Outline No-Lead, Body 2.2 x 2 mm, Pitch 0.5 mm; Supplier 1: Digi-Key; Supplier Part Number 1: EMI2121MTTAGOSTR-ND; Supplier 2: Digi-Key; Supplier Part Number 2: EMI2121MTTAGOSCT-ND; Supplier 3: Digi-Key; Supplier Part Number 3: EMI2121MTTAGOSDKR-ND; Supplier 4: Newark; Supplier Part Number 4: 65T1223; Supplier 5: Mouser; Supplier Part Number 5: 863-EMI2121MTTAG; Packing: Tape and Reel; RoHS: Pb-Free; Mounting Technology: Surface Mount; ComponentLink1Description: Manufacturer URL; ComponentLink1URL: http://www.onsemi.com/; ComponentLink2Description: Datasheet; ComponentLink2URL: http://www.onsemi.com/pub_link/Collateral/EMI2121MT-D.PDF; ComponentLink3Description: Package Specification; ComponentLink3URL: http://www.onsemi.com/pub_link/Collateral/511BN.PDF
footprint ONSC-WDFN-8-511BN_V (SON, 8-Leads, Body 2.2x2mm, Pitch 0.5mm, Thermal Pad 0.8x0.54mm)
pins: 1 IN_1+ (io) "CMF Channel 1+ to Connector (External)", 2 IN_1- (io) "CMF Channel 1- to Connector (External)", 3 GND (power), 4 GND (power), 5 GND (power), 6 VDD/ID (power), 7 OUT_1- (io) "CMF Channel 1- to ASIC (Internal)", 8 OUT_1+ (io) "CMF Channel 1+ to ASIC (Internal)", 9 GND (power)

## EMI2124MTTAG
designator U?
Single Pair Common Mode Filter with ESD Protection, -40 to 85 degC, 8-Pin WDFN, Pb-Free, Tape and Reel; Manufacturer: On Semiconductor; PartNumber: EMI2124MTTAG; C Typ (pF): 0.8; Number of Lines: 4; VRWM Max (V): 5; DatasheetVersion: Rev. 0; PackageVersion: Rev. A, 12/2012; PackageReference: WDFN-8-511BN; PackageDescription: 8-Pin Small Outline No-Lead, Body 2.2 x 2 mm, Pitch 0.5 mm; Packing: Tape and Reel; RoHS: Pb-Free; Mounting Technology: Surface Mount; ComponentLink1Description: Manufacturer URL; ComponentLink1URL: http://www.onsemi.com/; ComponentLink2Description: Datasheet; ComponentLink2URL: http://www.onsemi.cn/pub_link/Collateral/EMI2124-D.PDF; ComponentLink3Description: Package Specification; ComponentLink3URL: http://www.onsemi.com/pub_link/Collateral/511BN.PDF
footprint ONSC-WDFN-8-511BN_V (SON, 8-Leads, Body 2.2x2mm, Pitch 0.5mm, Thermal Pad 0.8x0.54mm)
pins: 1 IN_1+ (io) "CMF Channel 1+ to Connector (External)", 2 IN_1- (io) "CMF Channel 1- to Connector (External)", 3 GND (power) "Ground", 4 GND (power) "Ground", 5 VBUS (power) "Supply Protection to Connector - VBUS (External - VBUS)", 6 VID (power) "Supply Protection to Connector (External - VID)", 7 OUT_1- (io) "CMF Channel 1- to ASIC (Internal)", 8 OUT_1+ (io) "CMF Channel 1+ to ASIC (Internal)", 9 GND (power) "Ground"

## EMI2180MTTBG
designator U?
Common Mode Filter with ESD Protection, -40 to 85 degC, 6-Pin WDFN, Pb-Free, Tape and Reel; Manufacturer: On Semiconductor; PartNumber: EMI2180MTTBG; Number of Lines: 2; VRWM Max (V): 5; DatasheetVersion: Rev. 0; PackageVersion: Rev. O, 05/2012; PackageReference: WDFN-6-511BV; PackageDescription: 6-Pin Small Outline No-Lead, Body 1.6 x 2 mm, Pitch 0.5 mm; Packing: Tape and Reel; RoHS: Pb-Free; Mounting Technology: Surface Mount; ComponentLink1Description: Manufacturer URL; ComponentLink1URL: http://www.onsemi.com/; ComponentLink2Description: Datasheet; ComponentLink2URL: http://www.onsemi.cn/pub_link/Collateral/EMI2180-D.PDF; ComponentLink3Description: Package Specification; ComponentLink3URL: http://www.onsemi.cn/pub_link/Collateral/511BV.PDF
footprint ONSC-WDFN-6-511BV_V (SON, 6-Leads, Body 2x1.6mm, Pitch 0.5mm, Thermal Pad 1.3x1.15mm)
pins: 1 IN1+ (in) "CMF Channel 1+ to Connector", 2 IN1- (in) "CMF Channel 1- to Connector", 3 NC "No Connect", 4 VCC (power), 5 OUT1- (out) "CMF Channel 1- to ASIC", 6 OUT1+ (out) "CMF Channel 1+ to ASIC", 7 GND (power)

## EMI4162MUTAG
designator U?
Common Mode Filter with ESD Protection, -40 to 85 degC, 10-Pin UDFN, Pb-Free, Tape and Reel; Manufacturer: On Semiconductor; PartNumber: EMI4162MUTAG; C Typ (pF): 0.8; Number of Lines: 4; VRWM Max (V): 5; DatasheetVersion: Rev. 0; PackageVersion: Rev. O, 07/2012; PackageReference: UDFN-10-517CJ; PackageDescription: 10-Pin Small Outline No-Lead, Body 2.5 x 2 mm, Pitch 0.5 mm; Supplier 1: Mouser; Supplier Part Number 1: 863-EMI4162MUTAG; Packing: Tape and Reel; RoHS: Pb-Free; Mounting Technology: Surface Mount; ComponentLink1Description: Manufacturer URL; ComponentLink1URL: http://www.onsemi.com/; ComponentLink2Description: Datasheet; ComponentLink2URL: http://www.onsemi.com/pub_link/Collateral/EMI4162MU-D.PDF; ComponentLink3Description: Package Specification; ComponentLink3URL: http://www.onsemi.com/pub_link/Collateral/517CJ.PDF
footprint ONSC-UDFN-10-517CJ_V (UDFN, 10-Leads, Body 2.5x2mm, Pitch 0.5mm)
pins: 1 IN_1+ (io) "CMF Channel 1+ to Connector (External)", 2 IN_1- (io) "CMF Channel 1- to Connector (External)", 3 VN (power) "Ground", 4 IN_2+ (io) "CMF Channel 1+ to Connector (External)", 5 IN_2- (io) "CMF Channel 1- to Connector (External)", 6 OUT_2- (io) "CMF Channel 2- to ASIC (Internal)", 7 OUT_2+ (io) "CMF Channel 2+ to ASIC (Internal)", 8 VN (power) "Ground", 9 OUT_1- (io) "CMF Channel 1- to ASIC (Internal)", 10 OUT_1+ (io) "CMF Channel 1+ to ASIC (Internal)"

## EMI4172MTTAG
designator U?
Common Mode Filter with ESD Protection, -40 to 85 degC, 10-Pin WDFN, Pb-Free, Tape and Reel; Manufacturer: On Semiconductor; PartNumber: EMI4172MTTAG; C Typ (pF): 0.8; Number of Lines: 4; VRWM Max (V): 5; DatasheetVersion: Rev. 0; PackageVersion: Rev. O, 06/2010; PackageReference: WDFN-10-511BM-01; PackageDescription: 10-Pin Small Outline No-Lead, Body 2.5 x 2 mm, Pitch 0.5 mm; Supplier 1: Digi-Key; Supplier Part Number 1: EMI4172MTTAG-ND; Supplier 2: Mouser; Supplier Part Number 2: 863-EMI4172MTTAG; Packing: Tape and Reel; RoHS: Pb-Free; Mounting Technology: Surface Mount; ComponentLink1Description: Manufacturer URL; ComponentLink1URL: http://www.onsemi.com/; ComponentLink2Description: Datasheet; ComponentLink2URL: http://www.onsemi.cn/pub_link/Collateral/EMI4172-D.PDF; ComponentLink3Description: Package Specification; ComponentLink3URL: http://www.onsemi.cn/pub_link/Collateral/511BM.PDF
footprint ONSC-WDFN-10-511BM-01_V (SON, 10-Leads, Body 2.5x2mm, Pitch 0.5mm)
pins: 1 IN_1+ (io) "CMF Channel 1+ to Connector (External)", 2 IN_1- (io) "CMF Channel 1- to Connector (External)", 3 VN (power) "Ground", 4 IN_2+ (io) "CMF Channel 1+ to Connector (External)", 5 IN_2- (io) "CMF Channel 1- to Connector (External)", 6 OUT_2- (io) "CMF Channel 2- to ASIC (Internal)", 7 OUT_2+ (io) "CMF Channel 2+ to ASIC (Internal)", 8 VN (power) "Ground", 9 OUT_1- (io) "CMF Channel 1- to ASIC (Internal)", 10 OUT_1+ (io) "CMF Channel 1+ to ASIC (Internal)"

## EMI4182MTTAG
designator U?
Common Mode Filter with ESD Protection, -40 to 85 degC, 10-Pin WDFN, Pb-Free, Tape and Reel; Manufacturer: On Semiconductor; PartNumber: EMI4182MTTAG; C Typ (pF): 0.8; Number of Lines: 4; VRWM Max (V): 5; DatasheetVersion: Rev. 1; PackageVersion: Rev. O, 06/2010; PackageReference: WDFN-10-511BM-01; PackageDescription: 10-Pin Small Outline No-Lead, Body 2.5 x 2 mm, Pitch 0.5 mm; Supplier 1: Digi-Key; Supplier Part Number 1: EMI4182MTTAGOSTR-ND; Supplier 2: Digi-Key; Supplier Part Number 2: EMI4182MTTAGOSCT-ND; Supplier 3: Digi-Key; Supplier Part Number 3: EMI4182MTTAGOSDKR-ND; Supplier 4: Farnell; Supplier Part Number 4: 1961704; Supplier 5: Newark; Supplier Part Number 5: 58T1758; Supplier 6: Newark; Supplier Part Number 6: 52T7795; Supplier 7: Mouser; Supplier Part Number 7: 863-EMI4182MTTAG; Packing: Tape and Reel; RoHS: Pb-Free; Mounting Technology: Surface Mount; ComponentLink1Description: Manufacturer URL; ComponentLink1URL: http://www.onsemi.com/; ComponentLink2Description: Datasheet; ComponentLink2URL: http://www.onsemi.cn/pub_link/Collateral/EMI4182-D.PDF; ComponentLink3Description: Package Specification; ComponentLink3URL: http://www.onsemi.cn/pub_link/Collateral/511BM.PDF
footprint ONSC-WDFN-10-511BM-01_V (SON, 10-Leads, Body 2.5x2mm, Pitch 0.5mm)
pins: 1 IN_1+ (io) "CMF Channel 1+ to Connector (External)", 2 IN_1- (io) "CMF Channel 1- to Connector (External)", 3 VN (power) "Ground", 4 IN_2+ (io) "CMF Channel 1+ to Connector (External)", 5 IN_2- (io) "CMF Channel 1- to Connector (External)", 6 OUT_2- (io) "CMF Channel 2- to ASIC (Internal)", 7 OUT_2+ (io) "CMF Channel 2+ to ASIC (Internal)", 8 VN (power) "Ground", 9 OUT_1- (io) "CMF Channel 1- to ASIC (Internal)", 10 OUT_1+ (io) "CMF Channel 1+ to ASIC (Internal)"

## EMI4182MUTAG
designator U?
Common Mode Filter with ESD Protection, -40 to 85 degC, 10-Pin UDFN, Pb-Free, Tape and Reel; Manufacturer: On Semiconductor; PartNumber: EMI4182MUTAG; C Typ (pF): 0.8; Number of Lines: 4; VRWM Max (V): 5; DatasheetVersion: Rev. 0; PackageVersion: Rev. O, 07/2012; PackageReference: UDFN-10-517CJ; PackageDescription: 10-Pin Small Outline No-Lead, Body 2.5 x 2 mm, Pitch 0.5 mm; Supplier 1: Newark; Supplier Part Number 1: 72W1856; Supplier 2: Mouser; Supplier Part Number 2: 863-EMI4182MUTAG; Packing: Tape and Reel; RoHS: Pb-Free; Mounting Technology: Surface Mount; ComponentLink1Description: Manufacturer URL; ComponentLink1URL: http://www.onsemi.com/; ComponentLink2Description: Datasheet; ComponentLink2URL: http://www.onsemi.cn/pub_link/Collateral/EMI4182MU-D.PDF; ComponentLink3Description: Package Specification; ComponentLink3URL: http://www.onsemi.com/pub_link/Collateral/517CJ.PDF
footprint ONSC-UDFN-10-517CJ_V (UDFN, 10-Leads, Body 2.5x2mm, Pitch 0.5mm)
pins: 1 IN_1+ (io) "CMF Channel 1+ to Connector (External)", 2 IN_1- (io) "CMF Channel 1- to Connector (External)", 3 VN (power) "Ground", 4 IN_2+ (io) "CMF Channel 1+ to Connector (External)", 5 IN_2- (io) "CMF Channel 1- to Connector (External)", 6 OUT_2- (io) "CMF Channel 2- to ASIC (Internal)", 7 OUT_2+ (io) "CMF Channel 2+ to ASIC (Internal)", 8 VN (power) "Ground", 9 OUT_1- (io) "CMF Channel 1- to ASIC (Internal)", 10 OUT_1+ (io) "CMF Channel 1+ to ASIC (Internal)"

## EMI4183MTTAG
designator U?
Common Mode Filter with ESD Protection, -40 to 85 degC, 16-Pin WDFN, Pb-Free, Tape and Reel; Manufacturer: On Semiconductor; PartNumber: EMI4183MTTAG; C Typ (pF): 0.8; Number of Lines: 6; VRWM Max (V): 5; DatasheetVersion: Rev. 1; PackageVersion: Rev. O, 06/2010; PackageReference: WDFN-16-511BL-01; PackageDescription: 16-Pin Small Outline No-Lead, Body 4 x 2 mm, Pitch 0.5 mm; Supplier 1: Digi-Key; Supplier Part Number 1: EMI4183MTTAGOSTR-ND; Supplier 2: Digi-Key; Supplier Part Number 2: EMI4183MTTAGOSCT-ND; Supplier 3: Digi-Key; Supplier Part Number 3: EMI4183MTTAGOSDKR-ND; Supplier 4: Newark; Supplier Part Number 4: 52T7796; Supplier 5: Mouser; Supplier Part Number 5: 863-EMI4183MTTAG; Packing: Tape and Reel; RoHS: Pb-Free; Mounting Technology: Surface Mount; ComponentLink1Description: Manufacturer URL; ComponentLink1URL: http://www.onsemi.com/; ComponentLink2Description: Datasheet; ComponentLink2URL: http://www.onsemi.cn/pub_link/Collateral/EMI4183-D.PDF; ComponentLink3Description: Package Specification; ComponentLink3URL: http://www.onsemi.com/pub_link/Collateral/511BL.PDF
footprint ONSC-WDFN-16-511BL-01_V (SON, 16-Leads, Body 4x2mm, Pitch 0.5mm)
pins: 1 IN_1+ (io) "CMF Channel 1+ to Connector (External)", 2 IN_1- (io) "CMF Channel 1- to Connector (External)", 3 GND (power) "Ground", 4 IN_2+ (io) "CMF Channel 2+ to Connector (External)", 5 IN_2- (io) "CMF Channel 2- to Connector (External)", 6 GND (power) "Ground", 7 IN_3+ (io) "CMF Channel 3+ to Connector (External)", 8 IN_3- (io) "CMF Channel 3- to Connector (External)", 9 OUT_3- (io) "CMF Channel 3- to ASIC (Internal)", 10 OUT_3+ (io) "CMF Channel 3+ to ASIC (Internal)", 11 GND (power) "Ground", 12 OUT_2- (io) "CMF Channel 2- to ASIC (Internal)", 13 OUT_2+ (io) "CMF Channel 2+ to ASIC (Internal)", 14 GND (power) "Ground", 15 OUT_1- (io) "CMF Channel 1- to ASIC (Internal)", 16 OUT_1+ (io) "CMF Channel 1+ to ASIC (Internal)"

## EMI4183MUTAG
designator U?
Common Mode Filter with ESD Protection, -40 to 85 degC, 16-Pin UDFN, Pb-Free, Tape and Reel; Manufacturer: On Semiconductor; PartNumber: EMI4183MUTAG; C Typ (pF): 0.8; Number of Lines: 6; VRWM Max (V): 5; DatasheetVersion: Rev. 0; PackageVersion: Rev. O, 07/2012; PackageReference: UDFN-16-517CK; PackageDescription: 16-Pin Small Outline No-Lead, Body 4 x 2 mm, Pitch 0.5 mm; Supplier 1: Newark; Supplier Part Number 1: 72W1857; Supplier 2: Mouser; Supplier Part Number 2: 863-EMI4183MUTAG; Packing: Tape and Reel; RoHS: Pb-Free; Mounting Technology: Surface Mount; ComponentLink1Description: Manufacturer URL; ComponentLink1URL: http://www.onsemi.com/; ComponentLink2Description: Datasheet; ComponentLink2URL: http://www.onsemi.cn/pub_link/Collateral/EMI4183MU-D.PDF; ComponentLink3Description: Package Specification; ComponentLink3URL: http://www.onsemi.cn/pub_link/Collateral/517CK.PDF
footprint ONSC-UDFN-16-517CK_V (SON, 16-Leads, Body 4x2mm, Pitch 0.5mm)
pins: 1 IN_1+ (io) "CMF Channel 1+ to Connector (External)", 2 IN_1- (io) "CMF Channel 1- to Connector (External)", 3 GND (power) "Ground", 4 IN_2+ (io) "CMF Channel 2+ to Connector (External)", 5 IN_2- (io) "CMF Channel 2- to Connector (External)", 6 GND (power) "Ground", 7 IN_3+ (io) "CMF Channel 3+ to Connector (External)", 8 IN_3- (io) "CMF Channel 3- to Connector (External)", 9 OUT_3- (io) "CMF Channel 3- to ASIC (Internal)", 10 OUT_3+ (io) "CMF Channel 3+ to ASIC (Internal)", 11 GND (power) "Ground", 12 OUT_2- (io) "CMF Channel 2- to ASIC (Internal)", 13 OUT_2+ (io) "CMF Channel 2+ to ASIC (Internal)", 14 GND (power) "Ground", 15 OUT_1- (io) "CMF Channel 1- to ASIC (Internal)", 16 OUT_1+ (io) "CMF Channel 1+ to ASIC (Internal)"

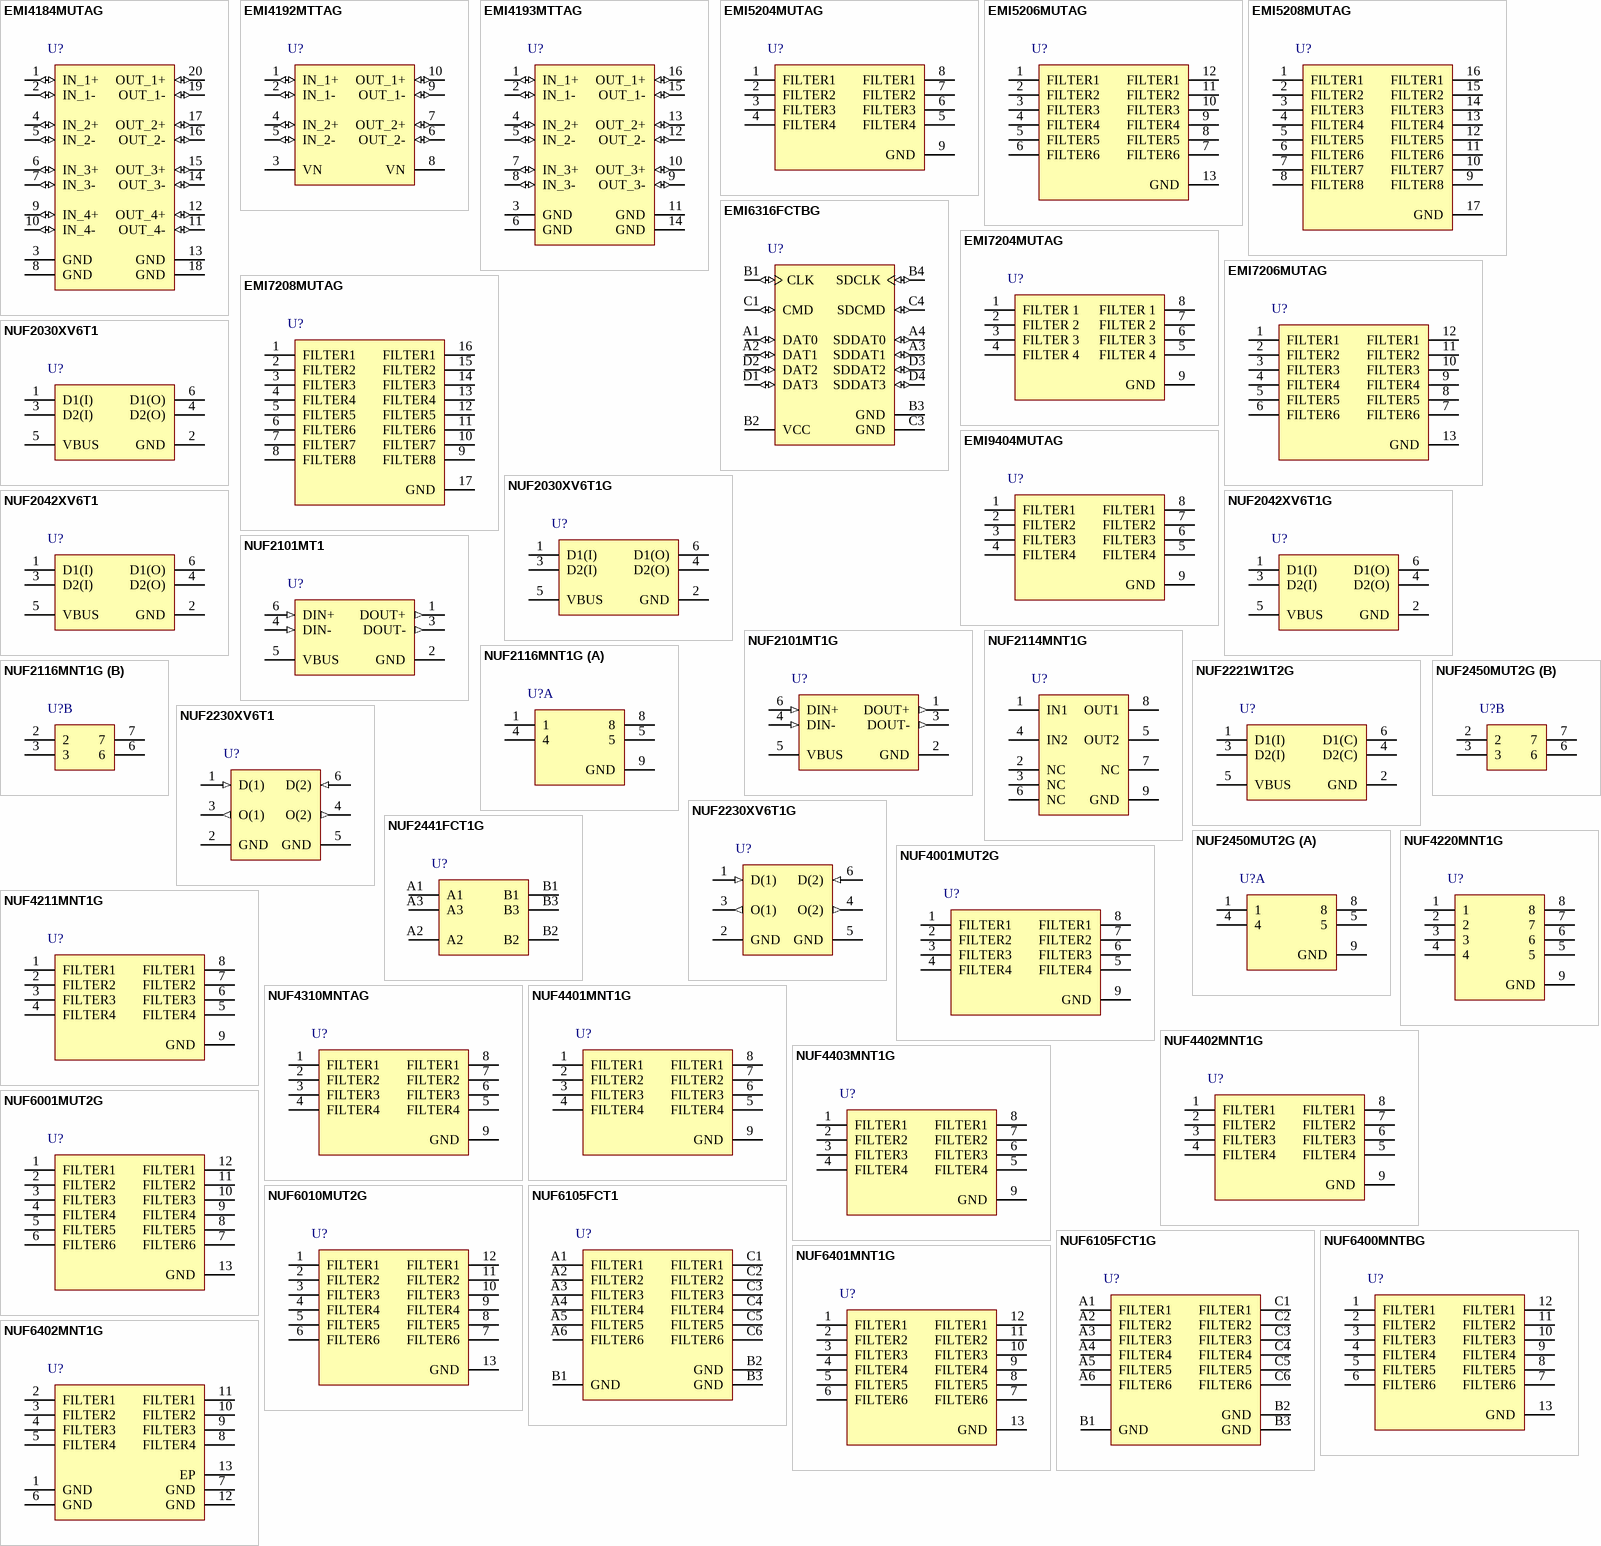
[diagram p1: symbols EMI4184MUTAG to NUF6402MNT1G]